# EAGLE library part CPL-THRM-MAX31855 (library TinWhiskers)
Thermocouple: Digital, 14-Bit, 8-Pin; Package: SOIC-8 (Narrow); Datasheet: http://datasheets.maximintegrated.com/en/ds/MAX31855.pdf
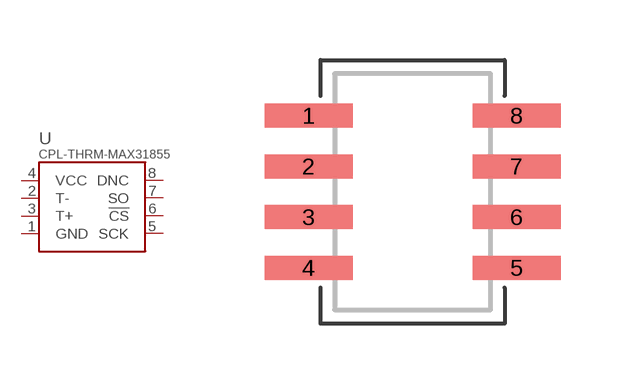
[diagram p40: symbol with the pads of SOICN-8; footprint SOICN-8]

Designator prefix U

## CPL-THRM-MAX31855  [SOICN-8]
1  GND
2  T-
3  T+
4  VCC
5  SCK
6  !CS
7  SO
8  DNC

## Footprint SOICN-8 (pad centres in mm)
SOIC-8 (Narrow)
smd 2.2 x 0.6: 1 -2.6,1.905; 2 -2.6,0.635; 3 -2.6,-0.635; 4 -2.6,-1.905; 5 2.6,-1.905; 6 2.6,-0.635; 7 2.6,0.635; 8 2.6,1.905